# Altium schematic symbol library KST5551MTF.SchLib: 2 symbols
Pins are listed as number, name and electrical type; pins without a type are passive.

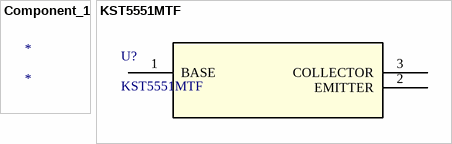
[diagram p0: symbols Component_1 to KST5551MTF]

## Component_1
designator *

## KST5551MTF
designator U?
No Description Available; Mfr_Name: onsemi; Copyright: Copyright (C) 2022 Ultra Librarian. All rights reserved.; Manufacturer_Part_Number: KST5551MTF; Digi-Key_Part_Number_1: KST5551MTFTR-ND; Digi-Key_Part_Number_2: KST5551MTFCT-ND; Digi-Key_Part_Number_3: KST5551MTFDKR-ND; RefDes: RefDes; Type: DEV
footprint SOT-23_ONS
pins: 1 BASE, 2 EMITTER, 3 COLLECTOR